# Altium footprint library microusb.PcbLib: 1 footprints
Each footprint in its own frame and in the unit in brackets; x right, y up, seen from the top. Pads: shape width x height; smd on the part's side, far side on the other; paste and mask are expansions set on the pad; w line width, h text height; cw(c..) or ccw(c..) is an arc to the next point about the centre after c.
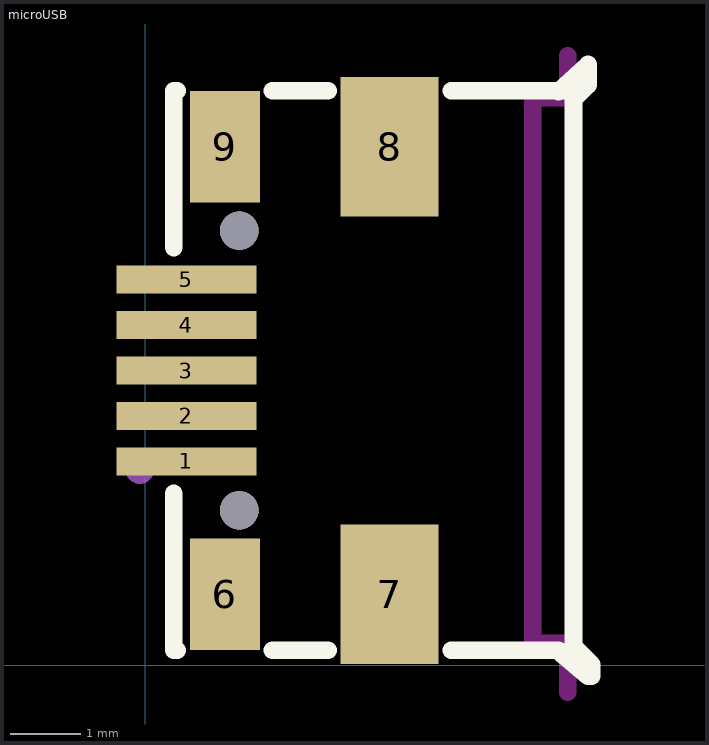
[diagram p0: the footprint, top view; thin cyan lines are the x and y axes]

## microUSB [mm]
pads (11):
  rect 2x0.4 smd paste+0 mask+0.051: 1(0.592,2.916) 2(0.592,3.566) 3(0.592,4.216) 4(0.592,4.866) 5(0.592,5.516)
  rect 1x1.6 smd paste+0 mask+0.051: 6(1.143,1.016) 9(1.143,7.416)
  rect 1.4x2 smd paste+0 mask+0.051: 7(3.497,1.016) 8(3.497,7.416)
  round 0.55 hole 0.55 unplated paste+0: ""(1.347,2.216) ""(1.347,6.216)
Top Overlay:
  lines w0.254: 0.412,2.458 0.412,0.215 0.462,0.215 ; 0.412,5.974 0.412,8.216 0.462,8.216 ; 1.824,0.215 2.616,0.215 ; 1.824,8.216 2.616,8.216 ; 4.378,0.215 4.443,0.215 5.914,0.215 ; 4.378,8.216 4.443,8.216 6.036,8.216 ; 5.913,0.205 6.332,-0.153 6.383,-0.153 6.383,0.012 6.126,0.27 6.126,8.094 6.332,8.3 6.332,8.592 5.913,8.206
Keep-Out Layer:
  lines w0.254: 6.045,-0.384 6.045,0.316 5.545,0.316 5.545,8.016 5.545,8.116 6.045,8.116 6.045,8.716
Mechanical 15:
  circle w0.27: c1.347,2.216 r0.135
  circle w0.27: c1.347,6.216 r0.135
  circle w0.2: c-0.077,2.795 r0.1